# Altium footprint library MyLibs_Connectors.PcbLib: 20 footprints (part 2 of 2)
Each footprint in its own frame and in the unit in brackets; x right, y up, seen from the top. Pads: shape width x height; smd on the part's side, far side on the other; paste and mask are expansions set on the pad; w line width, h text height; cw(c..) or ccw(c..) is an arc to the next point about the centre after c.
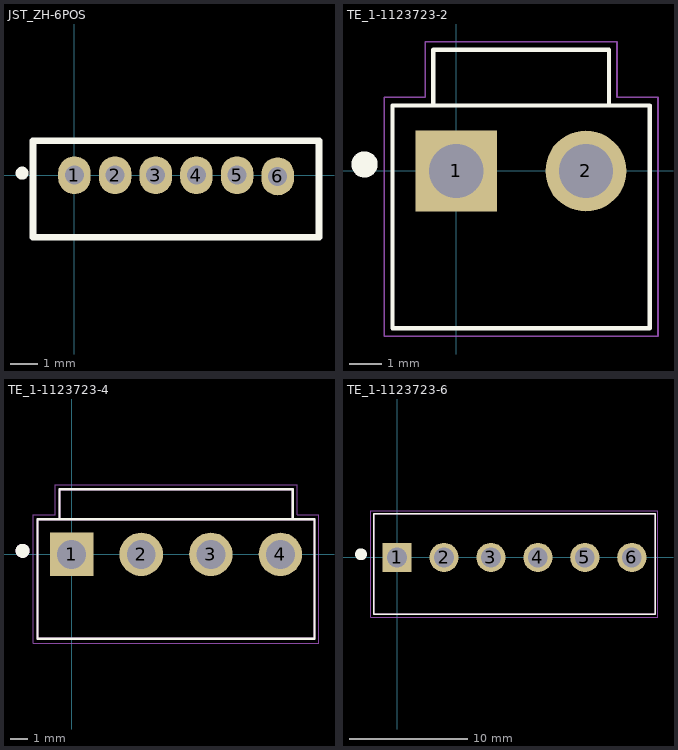
[diagram p1: the footprints below, top view; thin cyan lines are the x and y axes]

## JST_ZH-6POS [mm]
pads (6):
  oval 1.2x1.4 hole 0.7: 1(0,0) 2(1.5,0) 3(3,0) 4(4.5,0) 5(6,0) 6(7.5,-0.043)
Top Overlay:
  circle w0.254: c-1.93,0.076 r0.114
  lines w0.254: -1.524,-2.286 -1.524,1.27 9.017,1.27 ; -1.493,-2.286 9.017,-2.286 ; 9.024,-2.286 9.024,1.27
3D body "B6B-ZR.STEP": height 4.51, standoff -2.69, extent -1.567,-2.23 8.933,1.27

## TE_1-1123723-2 [mm] "CONN HEADER VERT 2POS 3.96MM"
pads (2):
  rect 2.475x2.475 hole 1.65: 1(0,0)
  round 2.475 hole 1.65: 2(3.96,0)
Top Overlay:
  circle w0.4: c-2.8,0.2 r0.2
  lines w0.127: -0.7,2 -1.95,2 -1.95,-4.8 5.91,-4.8 5.91,2 4.66,2 ; -0.7,2 4.66,2 ; -0.7,2 -0.7,3.7 4.66,3.7 4.66,2
Mechanical 1:
  lines w0.05: -2.2,-5.05 -2.2,2.25 -0.95,2.25 -0.95,3.95 4.91,3.95 4.91,2.25 6.16,2.25 6.16,-5.05 -2.2,-5.05
3D body "c-1-1123723-2-ad-3d.stp": height 10.71, standoff -3.69, extent -1.955,-4.858 5.905,3.642

## TE_1-1123723-4 [mm] "3.96 EP HDR ASSY 4P(NATURAL)"
pads (4):
  rect 2.475x2.475 hole 1.65: 1(0,0)
  round 2.475 hole 1.65: 2(3.96,0) 3(7.92,0) 4(11.88,0)
Top Overlay:
  circle w0.4: c-2.8,0.2 r0.2
  lines w0.127: -0.7,2 -1.95,2 -1.95,-4.8 13.83,-4.8 13.83,2 12.58,2 ; -0.7,2 12.58,2 ; -0.7,2 -0.7,3.7 12.58,3.7 12.58,2
Mechanical 13:
  circle w0.4: c-2.8,0.2 r0.2
  lines w0.127: -0.7,2 -1.95,2 -1.95,-4.8 13.83,-4.8 13.83,2 12.58,2 ; -0.7,2 12.58,2 ; -0.7,2 -0.7,3.7 12.58,3.7 12.58,2
Mechanical 15:
  lines w0.05: -2.2,-5.05 14.08,-5.05 14.08,2.25 12.83,2.25 12.83,3.95 -0.95,3.95 -0.95,2.25 -2.2,2.25 -2.2,-5.05
3D body "c-1-1123723-4-ad-3d.stp": height 10.71, standoff -3.69, extent -1.921,-4.817 13.859,3.683

## TE_1-1123723-6 [mm] "3.96 EP HDR ASSY 6P(NATURAL)"
pads (6):
  rect 2.475x2.475 hole 1.65: 1(0,0)
  round 2.475 hole 1.65: 2(3.96,0) 3(7.92,0) 4(11.88,0) 5(15.84,0) 6(19.8,0)
Top Overlay:
  circle w0.5: c-3.04,0.27 r0.25
  lines w0.127: -1.95,-4.8 21.75,-4.8 21.75,3.7 -1.95,3.7 -1.95,-4.8
Mechanical 4:
  circle w0.5: c-0.04,0.02 r0.25
  circle w0.5: c-0.04,0.02 r0.25
  lines w0.127: -1.95,-4.8 21.75,-4.8 ; -1.95,-4.8 -1.95,3.7 ; -1.95,-4.8 21.75,-4.8 ; -1.95,-4.8 -1.95,3.7 ; -1.95,3.7 21.75,3.7 ; -1.95,3.7 21.75,3.7 ; 21.75,-4.8 21.75,3.7 ; 21.75,-4.8 21.75,3.7
Mechanical 16:
  lines w0.05: -2.2,-5.05 -2.2,3.95 22,3.95 22,-5.05 -2.2,-5.05
3D body "c-1-1123723-6-ad-3d.stp": height 10.71, standoff -3.69, extent -1.955,-4.812 21.745,3.688